# EAGLE library part TSL25911FN (library BlueHome)
Sensitivity Ambient Light Sensor DFN6 Source: Datasheet <https://componentsearchengine.com/Datasheets/1/TSL25911FN.pdf>
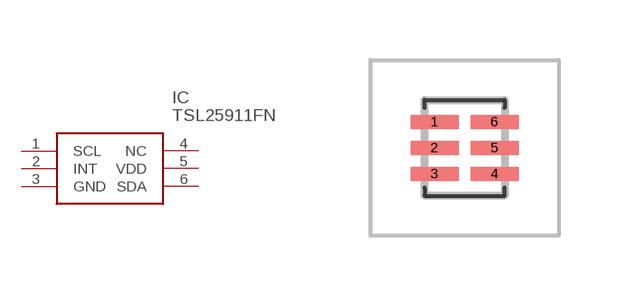
[diagram p4: symbol with the pads of TSL25911FN; footprint TSL25911FN]

Designator prefix IC

## TSL25911FN (DESCRIPTION: Sensitivity Ambient Light Sensor DFN6; HEIGHT: 0mm; MANUFACTURER_NAME: ams; MANUFACTURER_PART_NUMBER: TSL25911FN; MOUSER_PART_NUMBER: 985-TSL25911FN)  [TSL25911FN]
1  SCL
2  INT
3  GND
4  NC  nc
5  VDD
6  SDA

## Footprint TSL25911FN (pad centres in mm)
TSL25911FN
smd 1.2 x 0.35: 1 -0.75,0.65; 2 -0.75,0; 3 -0.75,-0.65; 4 0.75,-0.65; 5 0.75,0; 6 0.75,0.65